# Altium footprint library r2010.PcbLib: 1 footprints
Each footprint in its own frame and in the unit in brackets; x right, y up, seen from the top. Pads: shape width x height; smd on the part's side, far side on the other; paste and mask are expansions set on the pad; w line width, h text height; cw(c..) or ccw(c..) is an arc to the next point about the centre after c.
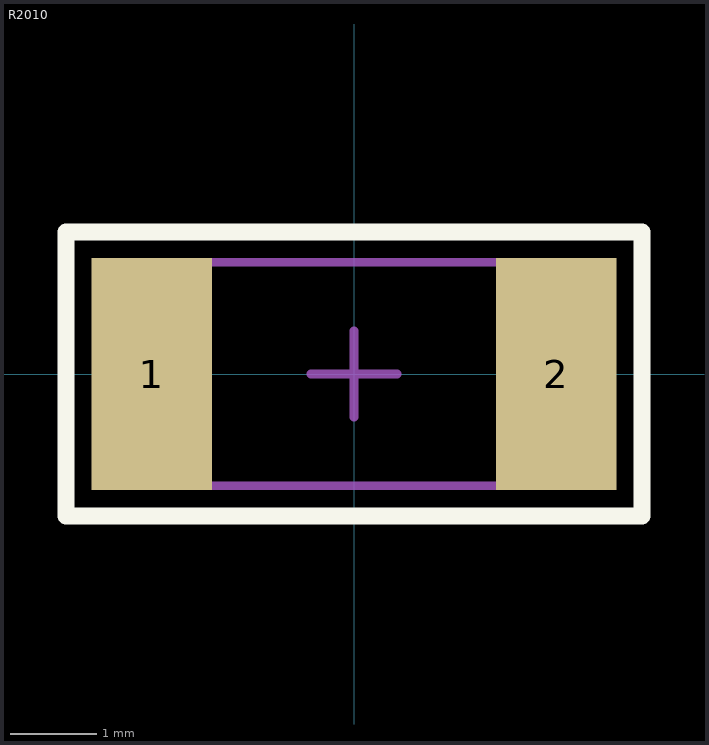
[diagram p0: the footprint, top view; thin cyan lines are the x and y axes]

## R2010 [mm] "Chip Resistor, 2-Leads, Body 5,30x2,50mm, IPC Medium Density"
height 0.7
pads (2):
  rect 1.4x2.7 smd: 1(-2.35,0) 2(2.35,0)
Top Overlay:
  lines w0.2: -3.35,-1.65 -3.35,1.65 ; -3.3,-1.65 3.3,-1.65 ; -3.3,1.65 3.3,1.65 ; 3.35,-1.65 3.35,1.65
Top Comment:
  text ".Comment" at 1,2 h1.2
Top Designator:
  text ".Designator" at -0.5,2 h1.2
Top Component Outline:
  lines w0.1: -2.5,-1.3 -2.5,1.3 2.5,1.3 2.5,-1.3 -2.5,-1.3
Top Courtyard (Mech15):
  lines w0.05: -3.3,-1.6 3.3,-1.6 3.3,1.6 -3.3,1.6 -3.3,-1.6
  lines w0.1: -0.5,0 0.5,0 ; 0,-0.5 0,0.5
3D body "R2010.STEP": height 0.6, standoff 0, extent -2.5,-1.255 2.5,1.255